# Altium footprint library pcb_peb_1.PcbLib: 31 footprints (part 1 of 2)
Each footprint in its own frame and in the unit in brackets; x right, y up, seen from the top. Pads: shape width x height; smd on the part's side, far side on the other; paste and mask are expansions set on the pad; w line width, h text height; cw(c..) or ccw(c..) is an arc to the next point about the centre after c.
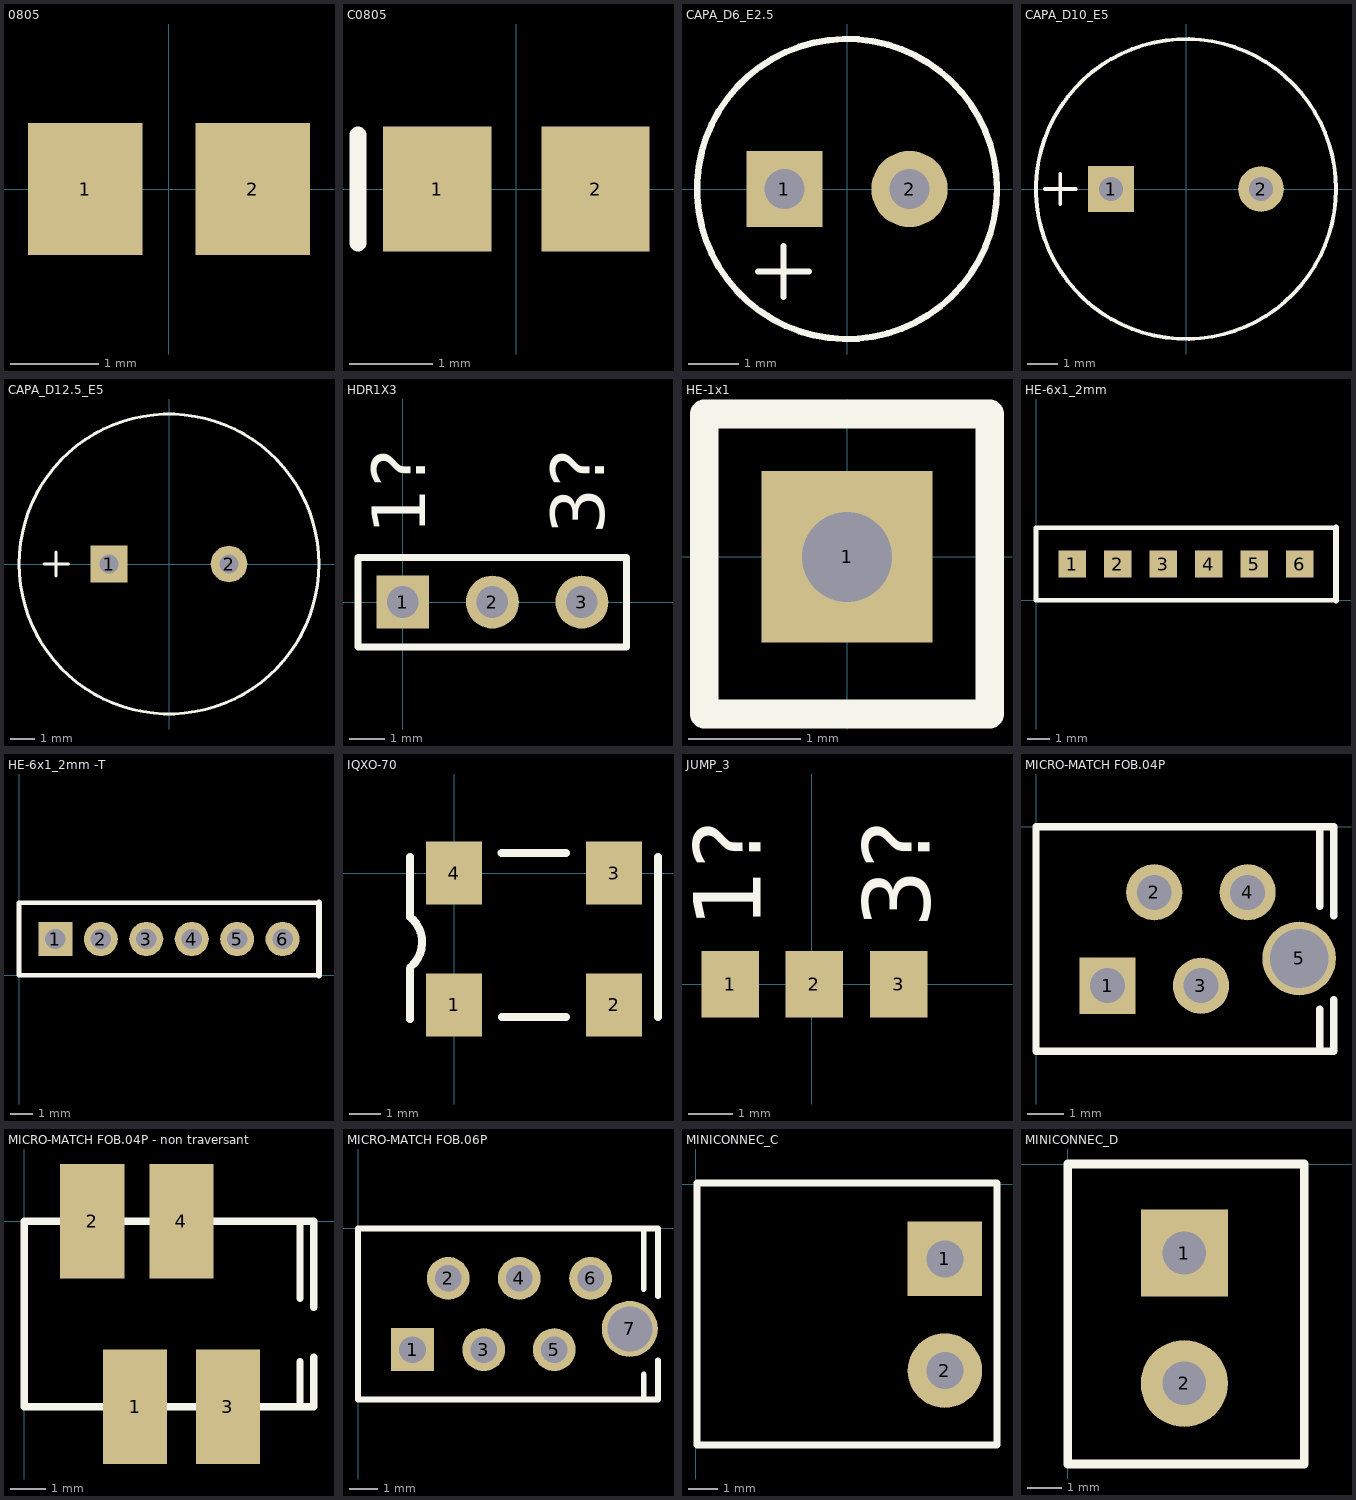
[diagram p0: the footprints below, top view; thin cyan lines are the x and y axes]

## 0805 [mm] "Chip Resistor; Body 2.0 x 1.3 mm (LxW typ)"
height 2.54
pads (2):
  rect 1.3x1.5 smd: 1(-0.95,0) 2(0.95,0)

## C0805 [mm] "Chip Capacitor; Body 2.0 x 1.2 mm (LxW typ)"
height 1.1
pads (2):
  rect 1.3x1.5 smd: 1(-0.95,0) 2(0.95,0)
Top Overlay:
  lines w0.2: -1.9,-0.65 -1.9,0.65

## CAPA_D6_E2.5 [mm]
pads (2):
  rect 1.524x1.524 hole 0.8: 1(-1.25,0)
  round 1.524 hole 0.8: 2(1.25,0)
Top Overlay:
  circle w0.127: c0,0 r3
  lines w0.127: -1.778,-1.651 -0.762,-1.651 ; -1.27,-2.159 -1.27,-1.143

## CAPA_D10_E5 [mm]
pads (2):
  rect 1.524x1.524 hole 0.8: 1(-2.5,0)
  round 1.524 hole 0.8: 2(2.5,0)
Top Overlay:
  circle w0.127: c0,0 r5
  lines w0.127: -4.699,0 -3.683,0 ; -4.191,-0.508 -4.191,0.508

## CAPA_D12.5_E5 [mm]
pads (2):
  rect 1.524x1.524 hole 0.8: 1(-2.5,0)
  round 1.524 hole 0.8: 2(2.5,0)
Top Overlay:
  circle w0.127: c0,0 r6.25
  lines w0.127: -5.207,0 -4.191,0 ; -4.699,-0.508 -4.699,0.508

## HDR1X3 [mm] "Connector; Header; 3 Position"
pads (3):
  rect 1.5x1.5 hole 0.9: 1(0,0)
  round 1.5 hole 0.9: 2(2.54,0) 3(5.08,0)
Top Overlay:
  lines w0.2: -1.27,-1.27 6.35,-1.27 6.35,1.27 -1.27,1.27 -1.27,-1.27
  text "3?" at 5.715,1.905 h1.52
  text "1?" at 0.635,1.905 h1.52

## HE-1x1 [mil] "Chip Resistor; Body 2.0 x 1.3 mm (LxW typ)"
height 100
pads (1):
  rect 60x60 hole 31.5: 1(0,0)
Top Overlay:
  lines w10: -50,-55 50,-55 50,50 -50,50 -50,-55

## HE-6x1_2mm [mm]
pads (6):
  rect 1.2x1.2 smd: 1(1.6,1.6) 2(3.6,1.6) 3(5.6,1.6) 4(7.6,1.6) 5(9.6,1.6) 6(11.6,1.6)
Top Overlay:
  lines w0.2: 13.2,0 0,0 0,3.2 13.2,3.2
  lines w0.254: 13.2,0 13.2,3.2

## HE-6x1_2mm -T [mm]
pads (6):
  rect 1.5x1.5 hole 0.9: 1(1.6,1.6)
  round 1.5 hole 0.9: 2(3.6,1.6) 3(5.6,1.6) 4(7.6,1.6) 5(9.6,1.6) 6(11.6,1.6)
Top Overlay:
  lines w0.2: 13.2,0 0,0 0,3.2 13.2,3.2
  lines w0.254: 13.2,0 13.2,3.2

## IQXO-70 [mil]
pads (4):
  rect 70x79 smd: 1(0,-165) 2(200,-165) 3(200,0) 4(0,0)
Top Overlay:
  lines w10: -55,-182.5 -55,-120 ; -55,-55 -55,20 ; -54.28,-117.28 ccw(c-79.96,-86.46) -52.3,-57.41 ; 59.06,25 140,25 ; 60,-180 140,-180 ; 255,-180 255,20

## JUMP_3 [mm] "Chip Resistor; Body 2.0 x 1.3 mm (LxW typ)"
height 2.54
pads (3):
  rect 1.3x1.5 smd: 1(-1.839,0) 2(0.061,0) 3(1.966,0)
Top Overlay:
  text "1?" at -1.143,1.27 h1.52
  text "3?" at 2.667,1.27 h1.52

## MICRO-MATCH FOB.04P [mm]
pads (5):
  rect 1.524x1.524 hole 0.95: 1(1.945,-4.32)
  round 1.524 hole 0.95: 2(3.215,-1.78) 3(4.485,-4.32) 4(5.755,-1.78)
  round 2 hole 1.6: 5(7.155,-3.58)
Top Overlay:
  lines w0.203: 7.719,-6.096 7.719,-4.953 ; 7.719,-2.159 7.719,0 ; 8.1,-6.1 0,-6.1 0,0 8.1,0 8.1,-2.413 ; 8.1,-6.096 8.1,-4.699

## MICRO-MATCH FOB.04P - non traversant [mm]
pads (4):
  rect 1.8x3.2 smd: 1(3.1,-5.2) 2(1.9,0) 3(5.7,-5.2) 4(4.4,0)
Top Overlay:
  lines w0.203: 7.719,-5.08 7.719,-3.937 ; 7.719,-2.159 7.719,0 ; 8.1,-3.81 8.1,-5.2 0,-5.2 0,0 8.1,0 8.1,-2.413

## MICRO-MATCH FOB.06P [mm]
pads (7):
  rect 1.524x1.524 hole 0.95: 1(1.945,-4.32)
  round 1.524 hole 0.95: 2(3.215,-1.78) 3(4.485,-4.32) 4(5.755,-1.78) 5(7,-4.32) 6(8.295,-1.78)
  round 2 hole 1.6: 7(9.695,-3.58)
Top Overlay:
  lines w0.203: 10.192,-6.096 10.192,-5.207 ; 10.192,-2.159 10.192,0 ; 10.7,-6.1 0,-6.1 0,0 10.7,0 10.7,-2.413 ; 10.7,-6.096 10.7,-4.699

## MINICONNEC_C [mil]
pads (2):
  rect 100x100 hole 50: 1(335,-100)
  round 100 hole 50: 2(335,-250)
Top Overlay:
  lines w10: 2,-350 405,-350 405,2 2,2 2,-350

## MINICONNEC_D [mm]
pads (2):
  rect 2.54x2.54 hole 1.27: 1(3.4,-2.6)
  round 2.54 hole 1.27: 2(3.4,-6.41)
Top Overlay:
  lines w0.254: 0,-8.763 6.9,-8.763 6.9,0 0,0 0,-8.763